# Altium footprint library wisp.PcbLib: 62 footprints (part 4 of 4)
Each footprint in its own frame and in the unit in brackets; x right, y up, seen from the top. Pads: shape width x height; smd on the part's side, far side on the other; paste and mask are expansions set on the pad; w line width, h text height; cw(c..) or ccw(c..) is an arc to the next point about the centre after c.
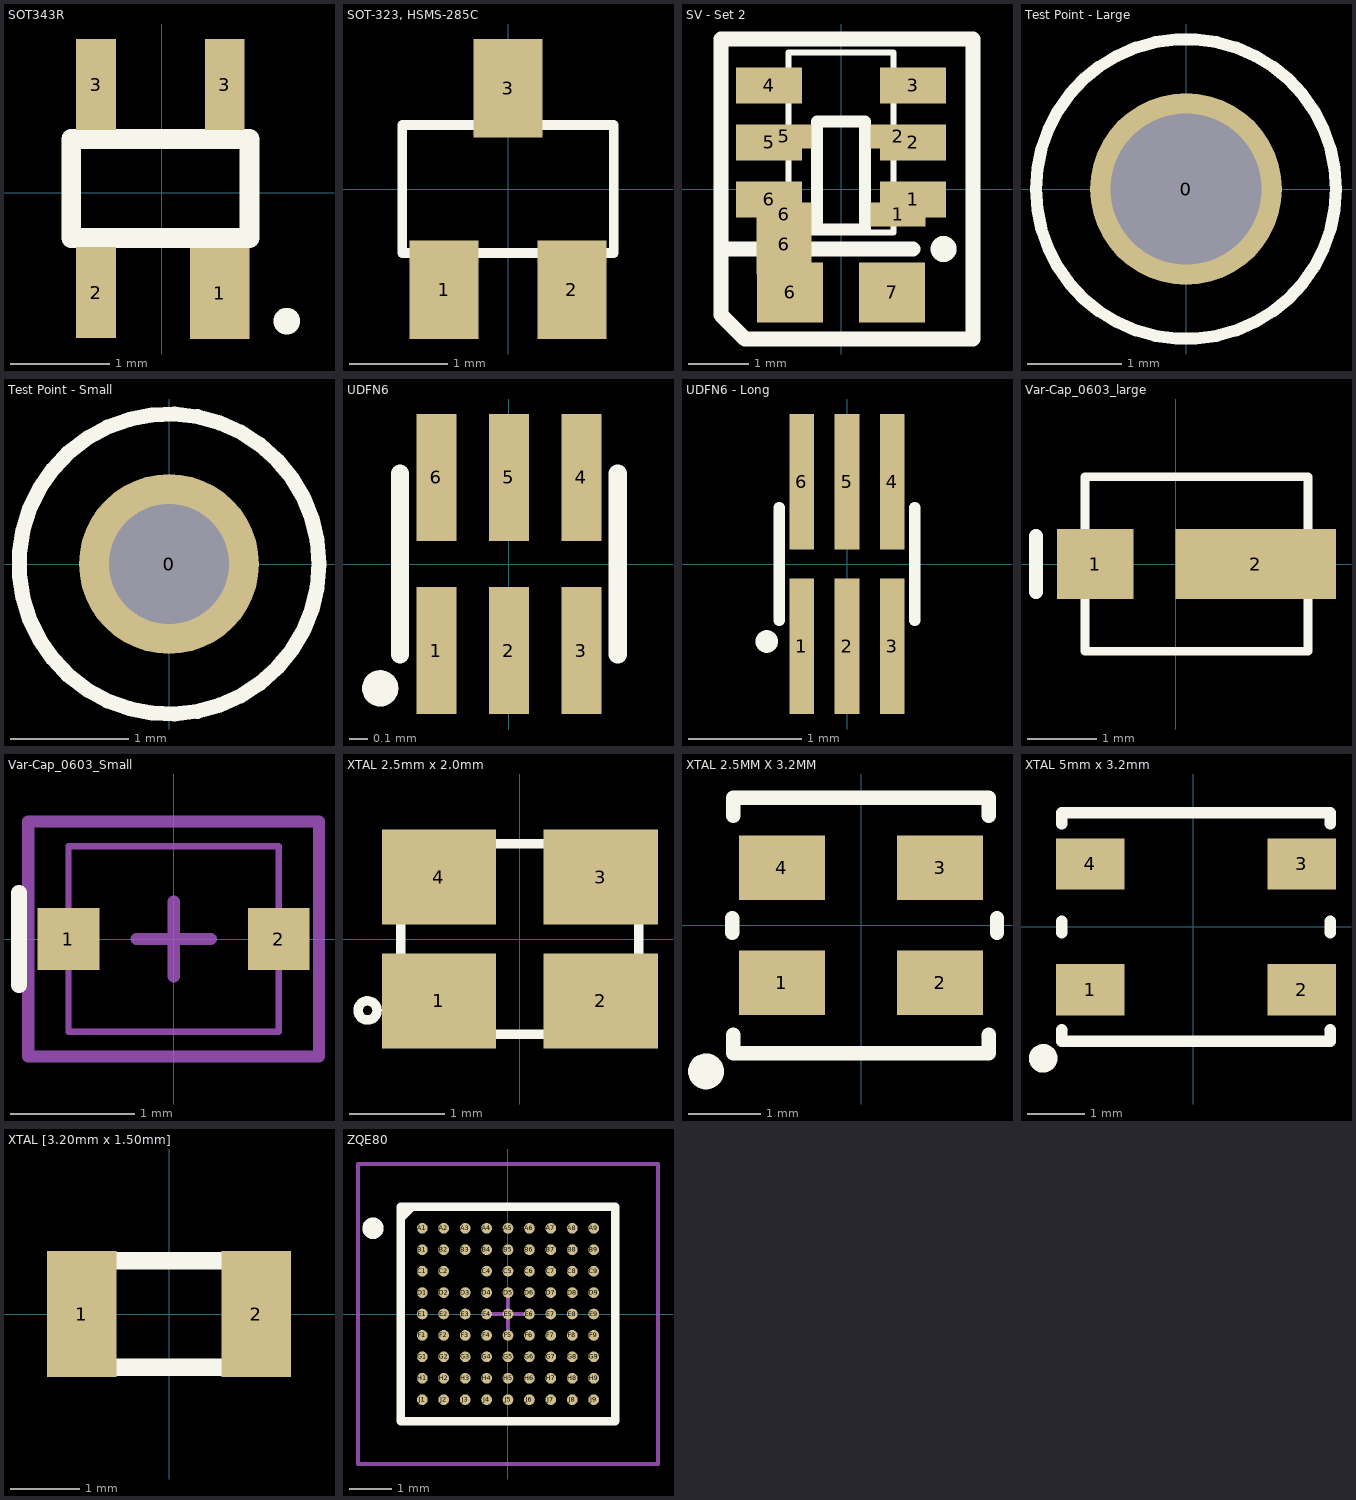
[diagram p3: the footprints below, top view; thin cyan lines are the x and y axes]

## SOT343R [mm] "SOT343R - Package for BF1101WR"
height 1.1
pads (4):
  rect 0.6x0.92 smd: 1(0.584,-1.016)
  rect 0.4x0.92 smd: 2(-0.664,-1.007) 3(-0.664,1.093) 3(0.636,1.093)
Top Overlay:
  circle w0.254: c1.262,-1.295 r0.008
  lines w0.2: -0.914,-0.457 -0.914,0.543 0.886,0.543 0.886,-0.457 -0.914,-0.457

## SOT-323, HSMS-285C [mm] "SOT-323/SC-70; 3 Leads; HSMS-285C"
height 1
pads (3):
  rect 0.7x1 smd: 1(-0.65,-1.025) 2(0.65,-1.025) 3(0,1.025)
Top Overlay:
  lines w0.1: -1.075,-0.65 1.075,-0.65 1.075,0.65 -1.075,0.65 -1.075,-0.65
Mechanical 13:
  text ".Designator" at -0.9,-0.275 h0.38
3D body: height 1, standoff 0, extent -1.075,-0.65 1.075,0.65

## SV - Set 2 [mm] "S-1000 (SOT-23-5, SC-82);  S1009 (SOT-23-5);  XC61C (SC-82, SOT-23);  NCP300 (SOT-23-5)"
pads (13):
  rect 0.92x0.4 smd: 1(0.95,-0.425) 2(0.95,0.875) 5(-0.95,0.875) 6(-0.95,-0.425)
  rect 1.1x0.6 smd: 1(1.2,-0.175) 2(1.2,0.775) 3(1.2,1.725) 4(-1.2,1.725) 5(-1.2,0.775) 6(-1.2,-0.175)
  rect 0.92x1 smd: 6(-0.95,-0.925)
  rect 1.1x1 smd: 6(-0.85,-1.725) 7(0.85,-1.725)
Top Overlay:
  circle w0.254: c1.71,-1 r0.09
  lines w0.1: -0.875,-0.725 0.875,-0.725 0.875,2.275 -0.875,2.275 -0.875,-0.725
  lines w0.2: 0.4,-0.675 -0.4,-0.675 -0.4,1.125 0.4,1.125 0.4,-0.675
  lines w0.254: -2,-1 1.2,-1 ; -2,-2.1 -1.6,-2.5 2.2,-2.5 2.2,2.5 -2,2.5 -2,-2.1

## Test Point - Large [mil] "Test Point, 63mil hole, example DK: 5012K-ND"
pads (1):
  round 80 hole 63: 0(0,0)
Top Overlay:
  circle w5: c0,0 r62.5

## Test Point - Small [mil] "Test Point, 40mil hole, example DK: 5000K-ND"
pads (1):
  round 60 hole 40: 0(0,0)
Top Overlay:
  circle w5: c0,0 r50

## UDFN6 [mm] "UDFN6 - Level Shifter -  NLSV1T244"
height 0.5
pads (6):
  rect 0.22x0.7 smd: 1(-0.4,-0.477) 2(0,-0.477) 3(0.4,-0.477) 4(0.4,0.477) 5(0,0.477) 6(-0.4,0.477)
Top Overlay:
  circle w0.1: c-0.71,-0.686 r0.05
  lines w0.1: -0.6,-0.5 -0.6,0.5 ; 0.6,-0.5 0.6,0.5

## UDFN6 - Long [mm] "UDFN6 - Level Shifter -  NLSV1T244"
height 0.5
pads (6):
  rect 0.22x1.2 smd: 1(-0.4,-0.727) 2(0,-0.727) 3(0.4,-0.727) 4(0.4,0.727) 5(0,0.727) 6(-0.4,0.727)
Top Overlay:
  circle w0.1: c-0.71,-0.686 r0.05
  lines w0.1: -0.6,-0.5 -0.6,0.5 ; 0.6,-0.5 0.6,0.5

## Var-Cap_0603_large [mm] "Var-Cap 603 Compatible, DK: 490-2009 & SG2026CT"
height 1.3
pads (2):
  rect 1.1x1 smd: 1(-1.15,0)
  rect 2.3x1 smd: 2(1.15,0)
Top Overlay:
  lines w0.127: -1.3,-1.25 -1.3,1.25 1.9,1.25 1.9,-1.25 -1.3,-1.25
  lines w0.2: -2,-0.4 -2,0.4

## Var-Cap_0603_Small [mm] "Var-Cap 0603 Compatible High-Q, DK#490-2011-1-ND"
height 0.6
pads (2):
  rect 0.5x0.5 smd: 1(-0.85,0) 2(0.85,0)
Top Overlay:
  lines w0.127: -1.25,-0.375 -1.25,0.375
Mechanical 13:
  lines w0.051: 0.85,-0.75 -0.85,-0.75 -0.85,0.75 0.85,0.75 0.85,-0.725
Mechanical 15:
  lines w0.1: -0.3,0 0.3,0 ; 0,-0.3 0,0.3 ; -1.175,-0.95 1.175,-0.95 1.175,0.95 -1.175,0.95 -1.175,-0.95
3D body: height 0.8, standoff 0, extent -0.85,-0.75 0.85,0.75

## XTAL 2.5mm x 2.0mm [mm] "CRYSTAL, 2.5mm x 2.0mm,  4Pin"
height 0.85
pads (4):
  rect 1.2x1 smd: 1(-0.85,-0.65) 2(0.85,-0.65) 3(0.85,0.65) 4(-0.85,0.65)
Top Overlay:
  circle w0.1: c-1.6,-0.75 r0.1
  lines w0.1: -1.25,-1 -1.25,1 1.25,1 1.25,-1 -1.25,-1

## XTAL 2.5MM X 3.2MM [mm]
pads (4):
  rect 1.2x0.9 smd: 1(-1.1,-0.8) 2(1.1,-0.8) 3(1.1,0.8) 4(-1.1,0.8)
Top Overlay:
  circle w0.25: c-2.157,-2.032 r0.125
  lines w0.2: -1.792,-0.1 -1.792,0.1 ; -1.778,-1.524 -1.778,-1.778 1.778,-1.778 1.778,-1.524 ; -1.778,1.524 -1.778,1.778 1.778,1.778 1.778,1.524 ; 1.892,-0.1 1.892,0.1

## XTAL 5mm x 3.2mm [mm]
pads (4):
  rect 1.2x0.9 smd: 1(-1.8,-1.1) 2(1.9,-1.1) 3(1.9,1.1) 4(-1.8,1.1)
Top Overlay:
  circle w0.25: c-2.625,-2.3 r0.125
  lines w0.2: -2.3,-1.8 -2.3,-2 2.4,-2 2.4,-1.8 ; -2.3,-0.1 -2.3,0.1 ; -2.3,1.8 -2.3,2 2.4,2 2.4,1.8 ; 2.4,-0.1 2.4,0.1

## XTAL [3.20mm x 1.50mm] [mm] "FC-135   crystal - epson eletronics"
height 0.8
pads (2):
  rect 1x1.8 smd: 1(-1.25,0) 2(1.25,0)
Top Overlay:
  lines w0.254: -0.762,-0.762 0.762,-0.762 ; -0.762,0.762 0.762,0.762

## ZQE80 [mm] "BGA, 80-Leads, Body 5x5mm, Pitch 0.5mm"
height 1
pads (80):
  round 0.25 smd: A1(-2,2) A2(-1.5,2) A3(-1,2) A4(-0.5,2) A5(0,2) A6(0.5,2) A7(1,2) A8(1.5,2) A9(2,2) B1(-2,1.5) B2(-1.5,1.5) B3(-1,1.5) B4(-0.5,1.5) B5(0,1.5) B6(0.5,1.5) B7(1,1.5) B8(1.5,1.5) B9(2,1.5) C1(-2,1) C2(-1.5,1) C4(-0.5,1) C5(0,1) C6(0.5,1) C7(1,1) C8(1.5,1) C9(2,1) D1(-2,0.5) D2(-1.5,0.5) D3(-1,0.5) D4(-0.5,0.5) D5(0,0.5) D6(0.5,0.5) D7(1,0.5) D8(1.5,0.5) D9(2,0.5) E1(-2,0) E2(-1.5,0) E3(-1,0) E4(-0.5,0) E5(0,0) E6(0.5,0) E7(1,0) E8(1.5,0) E9(2,0) F1(-2,-0.5) F2(-1.5,-0.5) F3(-1,-0.5) F4(-0.5,-0.5) F5(0,-0.5) F6(0.5,-0.5) F7(1,-0.5) F8(1.5,-0.5) F9(2,-0.5) G1(-2,-1) G2(-1.5,-1) G3(-1,-1) G4(-0.5,-1) G5(0,-1) G6(0.5,-1) G7(1,-1) G8(1.5,-1) G9(2,-1) H1(-2,-1.5) H2(-1.5,-1.5) H3(-1,-1.5) H4(-0.5,-1.5) H5(0,-1.5) H6(0.5,-1.5) H7(1,-1.5) H8(1.5,-1.5) H9(2,-1.5) J1(-2,-2) J2(-1.5,-2) J3(-1,-2) J4(-0.5,-2) J5(0,-2) J6(0.5,-2) J7(1,-2) J8(1.5,-2) J9(2,-2)
Top Overlay:
  circle w0.25: c-3.15,2 r0.125
  region: -2.242,2.5 -2.5,2.242 -2.5,2.5
  lines w0.2: -2.5,2.242 -2.242,2.5 ; -2.5,-2.5 -2.5,2.5 2.5,2.5 2.5,-2.5 -2.5,-2.5
Mechanical 13:
  lines w0.1: -2.5,-2.5 -2.5,2.5 2.5,2.5 2.5,-2.5 -2.5,-2.5
Mechanical 15:
  lines w0.1: -0.5,0 0.5,0 ; 0,-0.5 0,0.5 ; -3.5,-3.5 -3.5,3.5 3.5,3.5 3.5,-3.5 -3.5,-3.5
3D body: height 1, standoff 0, extent -2.5,-2.5 2.5,2.5